# EAGLE library part ITT-RTBCD (library switch)
ROTARY SWITCH ITT-Cannon
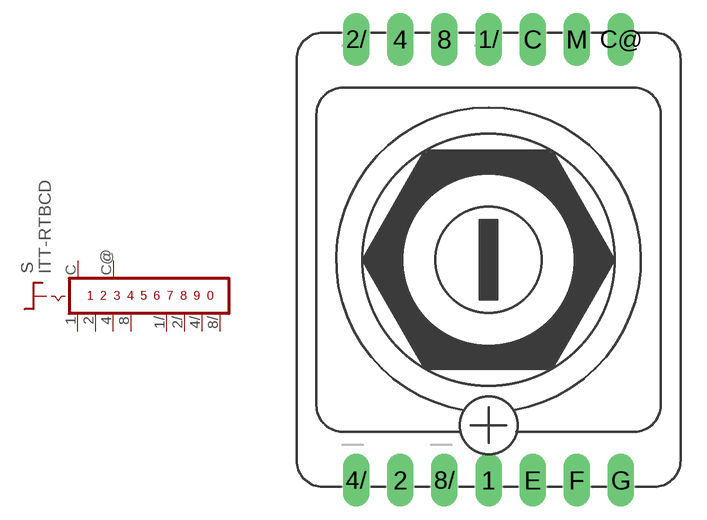
[diagram p8: symbol with the pads of ITT-RTBCD; footprint ITT-RTBCD]

Designator prefix S

## ITT-RTBCD  [ITT-RTBCD]
1  1  pas
1/  1/  pas
2  2  pas
2/  2/  pas
4  4  pas
4/  4/  pas
8  8  pas
8/  8/  pas
C  C  pas
C@  C  pas

## Footprint ITT-RTBCD (pad centres in mm)
ROTARY SWITCH ITT-Cannon
drill 1.016 long: 1 0,-12.7; 1/ 0,12.7; 2 -5.08,-12.7; 2/ -7.62,12.7; 4 -5.08,12.7; 4/ -7.62,-12.7; 8 -2.54,12.7; 8/ -2.54,-12.7; C 2.54,12.7; C@ 7.62,12.7; E 2.54,-12.7; F 5.08,-12.7; G 7.62,-12.7; M 5.08,12.7